# EAGLE library part DRV8850_MOTDRIVER (library ZHAW_BA)
Motordriver, 2-5.5V, 5A 24QFN DigiKey: Pt.Nr: 296-DRV8850RGYTCT-ND https://www.digikey.ch/product-detail/de/texas-instruments/DRV8850RGYT/296-DRV8850RGYTCT-ND/10665656
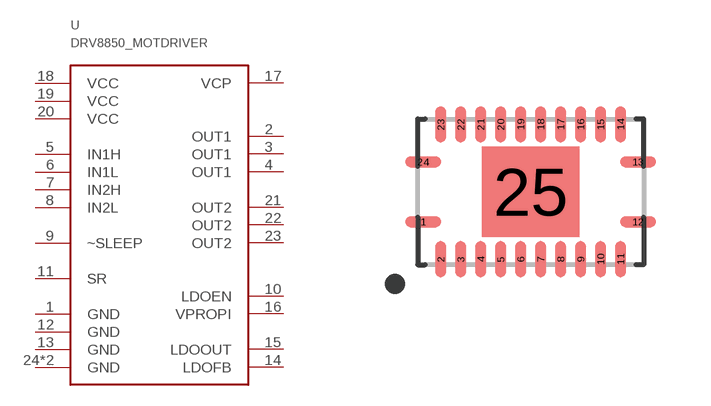
[diagram p15: symbol with the pads of QFN-24; footprint QFN-24]

Designator prefix U

## DRV8850_MOTDRIVER  [QFN-24]
1  GND
2  OUT1
3  OUT1
4  OUT1
5  IN1H
6  IN1L
7  IN2H
8  IN2L
9  ~SLEEP
10  LDOEN
11  SR
12  GND
13  GND
14  LDOFB
15  LDOOUT
16  VPROPI
17  VCP
18  VCC
19  VCC
20  VCC
21  OUT2
22  OUT2
23  OUT2
24  GND
25  GND

## Footprint QFN-24 (pad centres in mm)
24-QFN, 0.50 mm pitch, 3.50 X 5.50 X 1.00 mm body, 2.26 X 2.44 mm thermal pad 24-pin QFN package with 0.50 mm pitch with body size 3.50 X 5.50 X 1.00 mm and thermal pad size 2.26 X 2.44 mm
smd 0.896 x 0.27: 1 -2.687,-0.75; 12 2.687,-0.75; 13 2.687,0.75; 24 -2.687,0.75
smd 0.27 x 0.896: 2 -2.25,-1.687; 3 -1.75,-1.687; 4 -1.25,-1.687; 5 -0.75,-1.687; 6 -0.25,-1.687; 7 0.25,-1.687; 8 0.75,-1.687; 9 1.25,-1.687; 10 1.75,-1.687; 11 2.25,-1.687; 14 2.25,1.687; 15 1.75,1.687; 16 1.25,1.687; 17 0.75,1.687; 18 0.25,1.687; 19 -0.25,1.687; 20 -0.75,1.687; 21 -1.25,1.687; 22 -1.75,1.687; 23 -2.25,1.687
smd 2.44 x 2.26: 25 0,0